# EAGLE library part 64901821122 (library Wuerth_Elektronik_eiCan_Wire_to_Board_Connectors)
WR-MPC4 4.20mm Male Dual Row Vertical Header, 18 Pins=>Code : Con_WTB_MPC4_2_PCB_64901821122 <http://katalog.we-online.de/media/thumbs2/eican/thb_Con_WTB_MPC4_2_PCB_6490xx21122_pf2.jpg> Details see: http://katalog.we-online.de/en/em/649_0xx_211_22 Created 2014-06-06, Karrer Zheng 2014 (C) Würth Elektronik
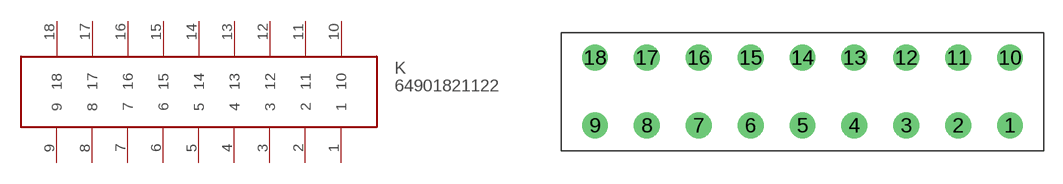
[diagram p306: symbol with the pads of 64901821122; footprint 64901821122]

Designator prefix K

## 64901821122  [64901821122]
1  1
2  2
3  3
4  4
5  5
6  6
7  7
8  8
9  9
10  10
11  11
12  12
13  13
14  14
15  15
16  16
17  17
18  18

## Footprint 64901821122 (pad centres in mm)
WR-MPC4 4.20mm Male Dual Row Vertical Header, 18 Pins
drill 1.4: 1 0,-2.75; 2 -4.2,-2.75; 3 -8.4,-2.75; 4 -12.6,-2.75; 5 -16.8,-2.75; 6 -21,-2.75; 7 -25.2,-2.75; 8 -29.4,-2.75; 9 -33.6,-2.75; 10 0,2.75; 11 -4.2,2.75; 12 -8.4,2.75; 13 -12.6,2.75; 14 -16.8,2.75; 15 -21,2.75; 16 -25.2,2.75; 17 -29.4,2.75; 18 -33.6,2.75